# EAGLE library part RS6334 (library LARS_409_MC)
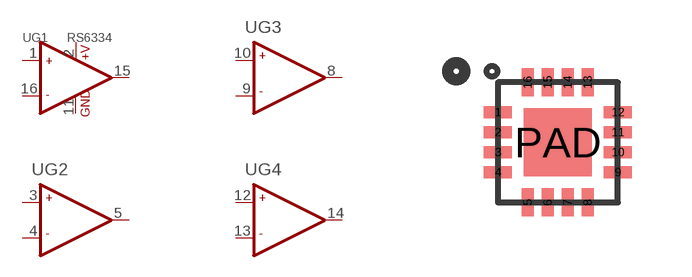
[diagram p40: symbol with the pads of QFN16(3X3); footprint QFN16(3X3)]

Designator prefix U; gates G1=OPAMP2 G2=OPAMP1 G3=OPAMP1 G4=OPAMP1

## RS6334RS6334  [QFN16(3X3)]
1  G1:+IN1  in
2  G1:+V  pwr
3  G2:+IN2  in
4  G2:-IN2  in
5  G2:OUT2  out
8  G3:OUT2  out
9  G3:-IN2  in
10  G3:+IN2  in
11  G1:GND  pwr
12  G4:+IN2  in
13  G4:-IN2  in
14  G4:OUT2  out
15  G1:OUT1  out
16  G1:-IN1  in

## Footprint QFN16(3X3) (pad centres in mm)
smd 0.7 x 0.3: 1 -1.5,0.75; 2 -1.5,0.25; 3 -1.5,-0.25; 4 -1.5,-0.75; 9 1.5,-0.75; 10 1.5,-0.25; 11 1.5,0.25; 12 1.5,0.75
smd 0.3 x 0.7: 5 -0.75,-1.5; 6 -0.25,-1.5; 7 0.25,-1.5; 8 0.75,-1.5; 13 0.75,1.5; 14 0.25,1.5; 15 -0.25,1.5; 16 -0.75,1.5
smd 1.7 x 1.7: PAD 0,0